# EAGLE library part BMP085 (library pixhawk2)
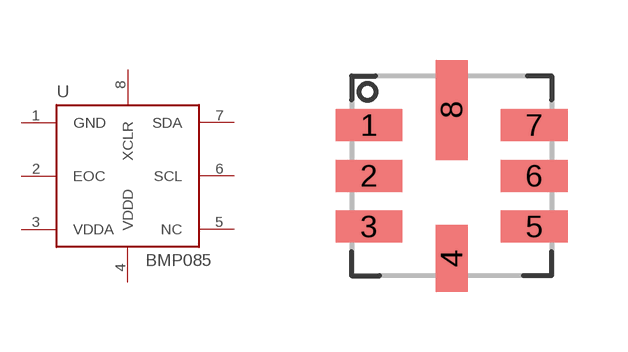
[diagram p14: symbol with the pads of BMP085; footprint BMP085]

Designator prefix U

## BMP085  [BMP085]
1  GND
2  EOC
3  VDDA
4  VDDD
5  NC
6  SCL
7  SDA
8  XCLR

## Footprint BMP085 (pad centres in mm)
smd 1.67 x 0.8: 1 -2.065,1.27; 2 -2.065,0; 3 -2.065,-1.27; 5 2.065,-1.27; 6 2.065,0; 7 2.065,1.27
smd 0.8 x 1.67: 4 0,-2.065
smd 0.8 x 2.5: 8 0,1.65